# Altium footprint library RPSLib_clean.PcbLib: 1 footprints
Each footprint in its own frame and in the unit in brackets; x right, y up, seen from the top. Pads: shape width x height; smd on the part's side, far side on the other; paste and mask are expansions set on the pad; w line width, h text height; cw(c..) or ccw(c..) is an arc to the next point about the centre after c.
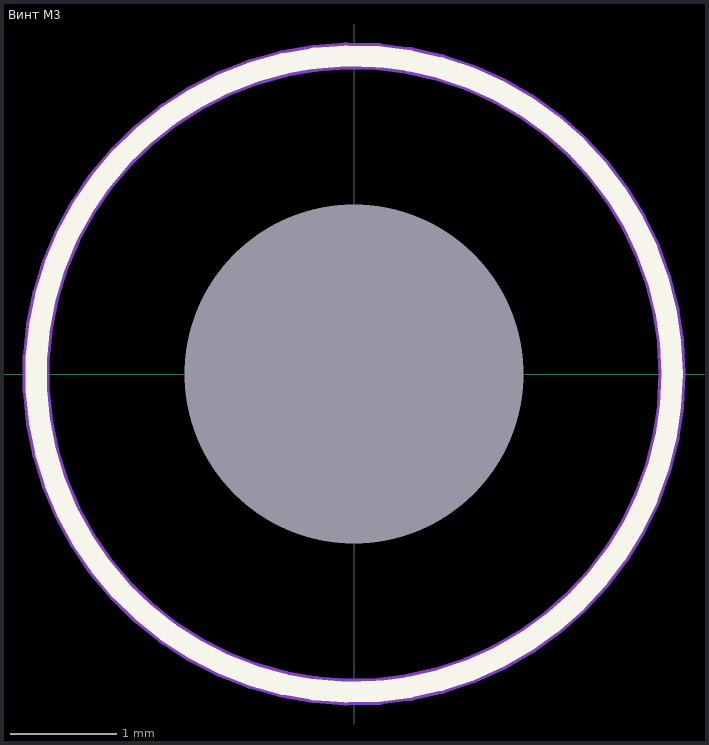
[diagram p0: the footprint, top view; thin cyan lines are the x and y axes]

## Винт М3 [mm]
pads (1):
  round 0 hole 3.2 unplated mask+0.07: mh2(0,0)
Top Layer keep-out:
  circle w0.254: c0,0 r3
Bottom Layer keep-out:
  circle w0.254: c0,0 r3
Top Overlay:
  circle w0.2: c0,0 r3
Mechanical 15:
  circle w0.1: c0,0 r3
  lines w0.2: -1.25,0 1.25,0 ; 0,-1.25 0,1.25